# Altium footprint library ZIP19-1.PcbLib: 1 footprints
Each footprint in its own frame and in the unit in brackets; x right, y up, seen from the top. Pads: shape width x height; smd on the part's side, far side on the other; paste and mask are expansions set on the pad; w line width, h text height; cw(c..) or ccw(c..) is an arc to the next point about the centre after c.
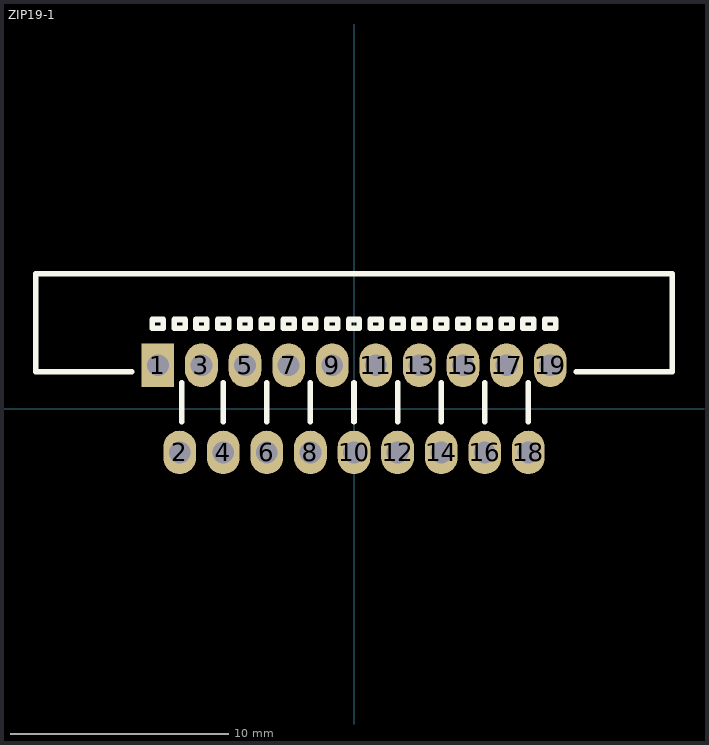
[diagram p0: the footprint, top view; thin cyan lines are the x and y axes]

## ZIP19-1 [mm]
pads (19):
  rect 1.5x2 hole 1: 1(-9,2)
  oval 1.5x2 hole 1: 2(-8,-2) 3(-7,2) 4(-6,-2) 5(-5,2) 6(-4,-2) 7(-3,2) 8(-2,-2) 9(-1,2) 10(0,-2) 11(1,2) 12(2,-2) 13(3,2) 14(4,-2) 15(5,2) 16(6,-2) 17(7,2) 18(8,-2) 19(9,2)
Top Overlay:
  lines w0.254: -10.2,1.7 -14.6,1.7 -14.6,6.2 14.6,6.2 14.6,1.7 10.2,1.7 ; -7.9,-0.6 -7.9,1.2 ; -6,-0.6 -6,1.2 ; -4,-0.6 -4,1.2 ; -2,-0.6 -2,1.2 ; 0,-0.6 0,1.2 ; 2,-0.6 2,1.2 ; 4,-0.6 4,1.2 ; 6,-0.6 6,1.2 ; 8,-0.6 8,1.2 ; -9.25,3.7 -8.75,3.7 -8.75,4.1 -9.25,4.1 -9.25,3.7 ; -8.25,3.7 -8.25,4.1 -7.75,4.1 -7.75,3.7 -8.25,3.7 ; -7.25,3.7 -6.75,3.7 -6.75,4.1 -7.25,4.1 -7.25,3.7 ; -6.25,3.7 -6.25,4.1 -5.75,4.1 -5.75,3.7 -6.25,3.7 ; -5.25,3.7 -4.75,3.7 -4.75,4.1 -5.25,4.1 -5.25,3.7 ; -4.25,3.7 -4.25,4.1 -3.75,4.1 -3.75,3.7 -4.25,3.7 ; -3.25,3.7 -2.75,3.7 -2.75,4.1 -3.25,4.1 -3.25,3.7 ; -2.25,3.7 -2.25,4.1 -1.75,4.1 -1.75,3.7 -2.25,3.7 ; -1.25,3.7 -1.25,4.1 -0.75,4.1 -0.75,3.7 -1.25,3.7 ; -0.25,3.7 0.25,3.7 0.25,4.1 -0.25,4.1 -0.25,3.7 ; 0.75,3.7 1.25,3.7 1.25,4.1 0.75,4.1 0.75,3.7 ; 1.75,3.7 1.75,4.1 2.25,4.1 2.25,3.7 1.75,3.7 ; 2.75,3.7 3.25,3.7 3.25,4.1 2.75,4.1 2.75,3.7 ; 3.75,3.7 3.75,4.1 4.25,4.1 4.25,3.7 3.75,3.7 ; 4.75,3.7 5.25,3.7 5.25,4.1 4.75,4.1 4.75,3.7 ; 5.75,3.7 5.75,4.1 6.25,4.1 6.25,3.7 5.75,3.7 ; 6.75,3.7 7.25,3.7 7.25,4.1 6.75,4.1 6.75,3.7 ; 7.75,3.7 7.75,4.1 8.25,4.1 8.25,3.7 7.75,3.7 ; 8.75,3.7 9.25,3.7 9.25,4.1 8.75,4.1 8.75,3.7